# EAGLE library part M8 (library con-phoenix-M8)
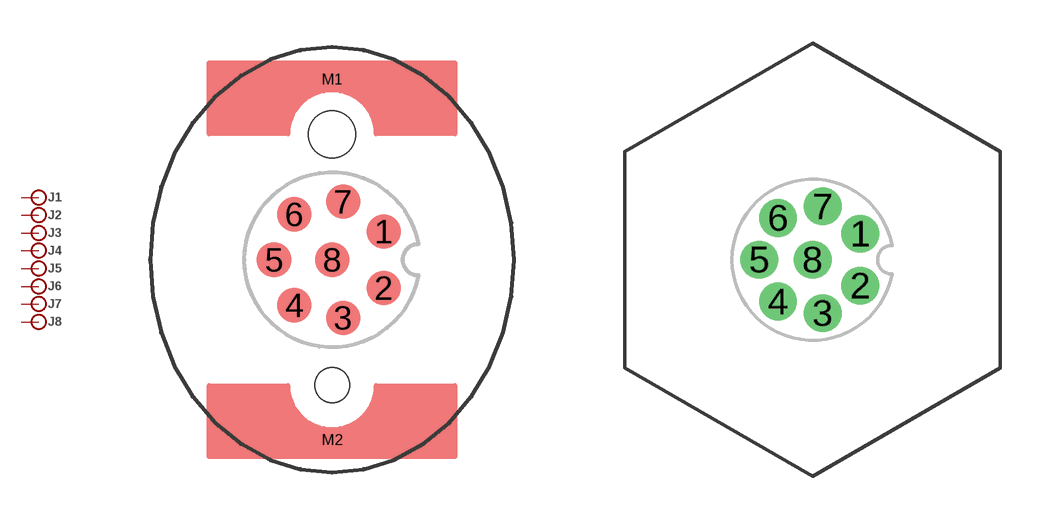
[diagram p0: symbol with the pads of SACC-CIP-M8FS-8P_SMD_SH_R32; footprints SACC-CIP-M8FS-8P_SMD_SH_R32, ZLM8F2-S-F-04-A]

Designator prefix J; gates 1=PIN 2=PIN 3=PIN 4=PIN 5=PIN 6=PIN 7=PIN 8=PIN

## M8-SMT-V (MF: Phoenix Contact; MPN: 1412262)  [SACC-CIP-M8FS-8P_SMD_SH_R32]
1  1:P
2  2:P
3  3:P
4  4:P
5  5:P
6  6:P
7  7:P
8  8:P

## M8-TH-V (MF: ZLconnector; MPN: ZLM8F2-S-F-08-A)  [ZLM8F2-S-F-04-A]
Pads as for SACC-CIP-M8FS-8P_SMD_SH_R32

## Footprint SACC-CIP-M8FS-8P_SMD_SH_R32 (pad centres in mm)
smd 1.1 x 1.1: 1 1.65,0.9; 2 1.65,-0.9; 3 0.35,-1.85; 4 -1.2,-1.45; 5 -1.85,0; 6 -1.2,1.45; 7 0.35,1.85; 8 0,0
smd 1 x 0.5: M1 0,5.75; M2 0,-5.75
hole 1.5 at 0,4
hole 1.1 at 0,-4

## Footprint ZLM8F2-S-F-04-A (pad centres in mm)
drill 0.8: 1 1.65,0.9; 2 1.65,-0.9; 3 0.35,-1.85; 4 -1.2,-1.45; 5 -1.85,0; 6 -1.2,1.45; 7 0.35,1.85; 8 0,0